# Altium schematic symbol library kmilo17pet-NSC_MiscPower.SchLib: 1552 symbols (part 31 of 43)
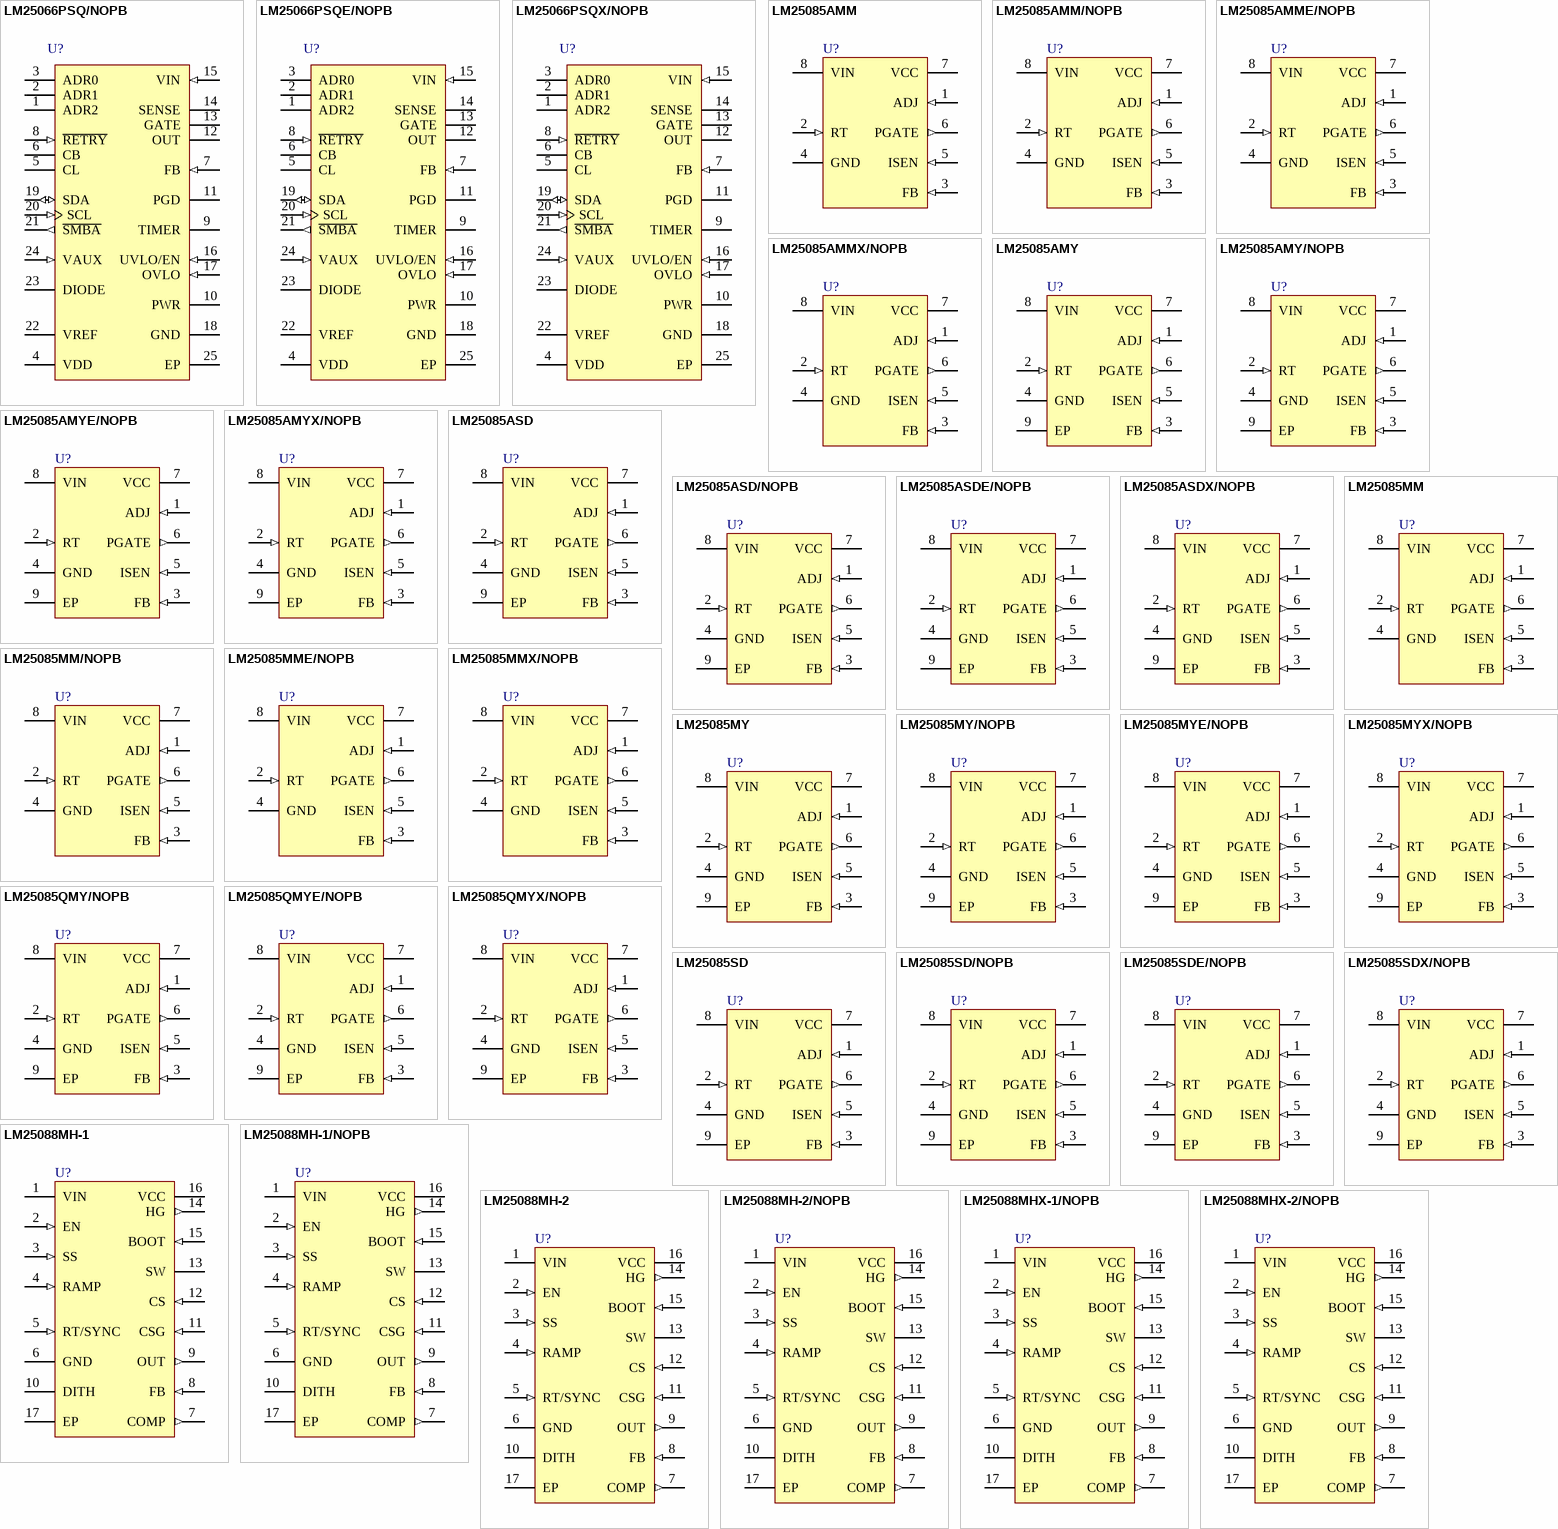
[diagram p87: symbols LM25066PSQ/NOPB to LM25088MHX-2/NOPB]

## LM25085AMY/NOPB
designator U?
42V Constant On-Time PFET Buck Switching Controller with 0.9V Reference, 8-pin eMSOP, Pb-Free; PartNumber: LM25085AMY/NOPB; Manufacturer: National Semiconductor; PackageTopMarking: ZXTT*SVYA; PowerWise: N; CompType: MiscPower; High-Reliability: Y; DatasheetVersion: Mar-2009; PackageVersion: revA, Nov-2003; PackageReference: MUY08A; PackageDescription: Molded Mini-SO, Exposed Pad, .118 x .118 x .034in Body, 8 Lead, .0256in Pitch; RoHS: Y; PinCount: 8; Code_JEDEC: MO-187-AA; ComponentLink1Description: Manufacturer URL; ComponentLink1URL: http://www.national.com/; ComponentLink2Description: LM25085A Datasheet; ComponentLink2URL: http://www.national.com/ds/LM/LM25085A.pdf; ComponentLink3Description: LM25085A Web Page; ComponentLink3URL: http://www.national.com/pf/LM/LM25085A.html; ComponentLink4Description: MUY08A Package Page; ComponentLink4URL: http://www.national.com/packaging/folders/muy08a.html
footprint MUY08A_N (TSOP, 8-Leads, Body 3x3mm, Pitch 0.65mm, Thermal Pad, IPC Medium Density)
footprint MUY08A_L (TSOP, 8-Leads, Body 3x3mm, Pitch 0.65mm, Thermal Pad, IPC High Density)
footprint MUY08A_M (TSOP, 8-Leads, Body 3x3mm, Pitch 0.65mm, Thermal Pad, IPC Low Density)
pins: 1 ADJ (in), 2 RT (in), 3 FB (in), 4 GND (power), 5 ISEN (in), 6 PGATE (out), 7 VCC (power), 8 VIN (power), 9 EP (power)

## LM25085AMYE/NOPB
designator U?
42V Constant On-Time PFET Buck Switching Controller with 0.9V Reference, 8-pin eMSOP, Pb-Free; PartNumber: LM25085AMYE/NOPB; Manufacturer: National Semiconductor; PackageTopMarking: ZXTT*SVYA; PowerWise: N; CompType: MiscPower; High-Reliability: Y; DatasheetVersion: Mar-2009; PackageVersion: revA, Nov-2003; PackageReference: MUY08A; PackageDescription: Molded Mini-SO, Exposed Pad, .118 x .118 x .034in Body, 8 Lead, .0256in Pitch; RoHS: Y; PinCount: 8; Code_JEDEC: MO-187-AA; ComponentLink1Description: Manufacturer URL; ComponentLink1URL: http://www.national.com/; ComponentLink2Description: LM25085A Datasheet; ComponentLink2URL: http://www.national.com/ds/LM/LM25085A.pdf; ComponentLink3Description: LM25085A Web Page; ComponentLink3URL: http://www.national.com/pf/LM/LM25085A.html; ComponentLink4Description: MUY08A Package Page; ComponentLink4URL: http://www.national.com/packaging/folders/muy08a.html
footprint MUY08A_N (TSOP, 8-Leads, Body 3x3mm, Pitch 0.65mm, Thermal Pad, IPC Medium Density)
footprint MUY08A_L (TSOP, 8-Leads, Body 3x3mm, Pitch 0.65mm, Thermal Pad, IPC High Density)
footprint MUY08A_M (TSOP, 8-Leads, Body 3x3mm, Pitch 0.65mm, Thermal Pad, IPC Low Density)
pins: 1 ADJ (in), 2 RT (in), 3 FB (in), 4 GND (power), 5 ISEN (in), 6 PGATE (out), 7 VCC (power), 8 VIN (power), 9 EP (power)

## LM25085AMYX/NOPB
designator U?
42V Constant On-Time PFET Buck Switching Controller with 0.9V Reference, 8-pin eMSOP, Pb-Free; PartNumber: LM25085AMYX/NOPB; Manufacturer: National Semiconductor; PackageTopMarking: ZXTT*SVYA; PowerWise: N; CompType: MiscPower; High-Reliability: Y; DatasheetVersion: Mar-2009; PackageVersion: revA, Nov-2003; PackageReference: MUY08A; PackageDescription: Molded Mini-SO, Exposed Pad, .118 x .118 x .034in Body, 8 Lead, .0256in Pitch; RoHS: Y; PinCount: 8; Code_JEDEC: MO-187-AA; ComponentLink1Description: Manufacturer URL; ComponentLink1URL: http://www.national.com/; ComponentLink2Description: LM25085A Datasheet; ComponentLink2URL: http://www.national.com/ds/LM/LM25085A.pdf; ComponentLink3Description: LM25085A Web Page; ComponentLink3URL: http://www.national.com/pf/LM/LM25085A.html; ComponentLink4Description: MUY08A Package Page; ComponentLink4URL: http://www.national.com/packaging/folders/muy08a.html
footprint MUY08A_N (TSOP, 8-Leads, Body 3x3mm, Pitch 0.65mm, Thermal Pad, IPC Medium Density)
footprint MUY08A_L (TSOP, 8-Leads, Body 3x3mm, Pitch 0.65mm, Thermal Pad, IPC High Density)
footprint MUY08A_M (TSOP, 8-Leads, Body 3x3mm, Pitch 0.65mm, Thermal Pad, IPC Low Density)
pins: 1 ADJ (in), 2 RT (in), 3 FB (in), 4 GND (power), 5 ISEN (in), 6 PGATE (out), 7 VCC (power), 8 VIN (power), 9 EP (power)

## LM25085ASD
designator U?
42V Constant On-Time PFET Buck Switching Controller with 0.9V Reference , 8-pin LLP; PartNumber: LM25085ASD; Manufacturer: National Semiconductor; PackageTopMarking: ZXYTT*L246A; PowerWise: N; CompType: MiscPower; High-Reliability: Y; DatasheetVersion: Mar-2009; PackageVersion: revA, Aug-2003; PackageReference: SDA08A; PackageDescription: LLP, Plastic, Dual, 3 x 3 x 0.8mm Body, 8 Lead, 0.5mm Pitch, No Pullback; RoHS: Y; PinCount: 8; ComponentLink1Description: Manufacturer URL; ComponentLink1URL: http://www.national.com/; ComponentLink2Description: LM25085 Datasheet; ComponentLink2URL: http://www.national.com/ds/LM/LM25085A.pdf; ComponentLink3Description: LM25085 Web Page; ComponentLink3URL: http://www.national.com/pf/LM/LM25085A.html; ComponentLink4Description: SDA08A Package Page; ComponentLink4URL: http://www.national.com/packaging/folders/sda08a.html
footprint SDA08A (SON, 8-Leads, Body 3x3mm, Pitch 0.5mm, NSC Recommended)
pins: 1 ADJ (in), 2 RT (in), 3 FB (in), 4 GND (power), 5 ISEN (in), 6 PGATE (out), 7 VCC (power), 8 VIN (power), 9 EP (power)

## LM25085ASD/NOPB
designator U?
42V Constant On-Time PFET Buck Switching Controller with 0.9V Reference, 8-pin LLP, Pb-Free; PartNumber: LM25085ASD/NOPB; Manufacturer: National Semiconductor; PackageTopMarking: ZXYTT*L246A; PowerWise: N; CompType: MiscPower; High-Reliability: Y; DatasheetVersion: Mar-2009; PackageVersion: revA, Aug-2003; PackageReference: SDA08A; PackageDescription: LLP, Plastic, Dual, 3 x 3 x 0.8mm Body, 8 Lead, 0.5mm Pitch, No Pullback; RoHS: Y; PinCount: 8; ComponentLink1Description: Manufacturer URL; ComponentLink1URL: http://www.national.com/; ComponentLink2Description: LM25085A Datasheet; ComponentLink2URL: http://www.national.com/ds/LM/LM25085A.pdf; ComponentLink3Description: LM25085A Web Page; ComponentLink3URL: http://www.national.com/pf/LM/LM25085A.html; ComponentLink4Description: SDA08A Package Page; ComponentLink4URL: http://www.national.com/packaging/folders/sda08a.html
footprint SDA08A (SON, 8-Leads, Body 3x3mm, Pitch 0.5mm, NSC Recommended)
pins: 1 ADJ (in), 2 RT (in), 3 FB (in), 4 GND (power), 5 ISEN (in), 6 PGATE (out), 7 VCC (power), 8 VIN (power), 9 EP (power)

## LM25085ASDE/NOPB
designator U?
42V Constant On-Time PFET Buck Switching Controller with 0.9V Reference, 8-pin LLP, Pb-Free; PartNumber: LM25085ASDE/NOPB; Manufacturer: National Semiconductor; PackageTopMarking: ZXYTT*L246A; PowerWise: N; CompType: MiscPower; High-Reliability: Y; DatasheetVersion: Mar-2009; PackageVersion: revA, Aug-2003; PackageReference: SDA08A; PackageDescription: LLP, Plastic, Dual, 3 x 3 x 0.8mm Body, 8 Lead, 0.5mm Pitch, No Pullback; RoHS: Y; PinCount: 8; ComponentLink1Description: Manufacturer URL; ComponentLink1URL: http://www.national.com/; ComponentLink2Description: LM25085A Datasheet; ComponentLink2URL: http://www.national.com/ds/LM/LM25085A.pdf; ComponentLink3Description: LM25085A Web Page; ComponentLink3URL: http://www.national.com/pf/LM/LM25085A.html; ComponentLink4Description: SDA08A Package Page; ComponentLink4URL: http://www.national.com/packaging/folders/sda08a.html
footprint SDA08A (SON, 8-Leads, Body 3x3mm, Pitch 0.5mm, NSC Recommended)
pins: 1 ADJ (in), 2 RT (in), 3 FB (in), 4 GND (power), 5 ISEN (in), 6 PGATE (out), 7 VCC (power), 8 VIN (power), 9 EP (power)

## LM25085ASDX/NOPB
designator U?
42V Constant On-Time PFET Buck Switching Controller with 0.9V Reference, 8-pin LLP, Pb-Free; PartNumber: LM25085ASDX/NOPB; Manufacturer: National Semiconductor; PackageTopMarking: ZXYTT*L246A; PowerWise: N; CompType: MiscPower; High-Reliability: Y; DatasheetVersion: Mar-2009; PackageVersion: revA, Aug-2003; PackageReference: SDA08A; PackageDescription: LLP, Plastic, Dual, 3 x 3 x 0.8mm Body, 8 Lead, 0.5mm Pitch, No Pullback; RoHS: Y; PinCount: 8; ComponentLink1Description: Manufacturer URL; ComponentLink1URL: http://www.national.com/; ComponentLink2Description: LM25085A Datasheet; ComponentLink2URL: http://www.national.com/ds/LM/LM25085A.pdf; ComponentLink3Description: LM25085A Web Page; ComponentLink3URL: http://www.national.com/pf/LM/LM25085A.html; ComponentLink4Description: SDA08A Package Page; ComponentLink4URL: http://www.national.com/packaging/folders/sda08a.html
footprint SDA08A (SON, 8-Leads, Body 3x3mm, Pitch 0.5mm, NSC Recommended)
pins: 1 ADJ (in), 2 RT (in), 3 FB (in), 4 GND (power), 5 ISEN (in), 6 PGATE (out), 7 VCC (power), 8 VIN (power), 9 EP (power)

## LM25085MM
designator U?
42V Constant On-Time PFET Buck Switching Controller, PowerWise, 8-pin MSOP; PartNumber: LM25085MM; Manufacturer: National Semiconductor; PackageTopMarking: ZXTT*SVZB; PowerWise: Y; CompType: MiscPower; DatasheetVersion: Dec-2009; PackageVersion: revF, Apr-2008; PackageReference: MUA08A; PackageDescription: MINI SOIC, .118 x .118 x .034in, 8 Lead, .0256in Pitch; RoHS: Y; PinCount: 8; High-Reliability: Y; Code_JEDEC: MO-187-AA; ComponentLink1Description: Manufacturer URL; ComponentLink1URL: http://www.national.com/; ComponentLink2Description: LM25085 Datasheet; ComponentLink2URL: http://www.national.com/ds/LM/LM25085.pdf; ComponentLink3Description: LM25085 Web Page; ComponentLink3URL: http://www.national.com/pf/LM/LM25085.html; ComponentLink4Description: MUA08A Package Page; ComponentLink4URL: http://www.national.com/packaging/folders/mua08a.html
footprint MUA08A_N (TSOP, 8-Leads, Body 3x3mm, Pitch 0.65mm, IPC Medium Density)
footprint MUA08A_L (TSOP, 8-Leads, Body 3x3mm, Pitch 0.65mm, IPC High Density)
footprint MUA08A_M (TSOP, 8-Leads, Body 3x3mm, Pitch 0.65mm, IPC Low Density)
pins: 1 ADJ (in), 2 RT (in), 3 FB (in), 4 GND (power), 5 ISEN (in), 6 PGATE (out), 7 VCC (power), 8 VIN (power)

## LM25085MM/NOPB
designator U?
42V Constant On-Time PFET Buck Switching Controller, 8-pin MSOP, Pb-Free; PartNumber: LM25085MM/NOPB; Manufacturer: National Semiconductor; PackageTopMarking: ZXTT*SVZB; PowerWise: Y; CompType: MiscPower; DatasheetVersion: Dec-2009; PackageVersion: revF, Apr-2008; PackageReference: MUA08A; PackageDescription: MINI SOIC, .118 x .118 x .034in, 8 Lead, .0256in Pitch; RoHS: Y; PinCount: 8; High-Reliability: Y; Code_JEDEC: MO-187-AA; ComponentLink1Description: Manufacturer URL; ComponentLink1URL: http://www.national.com/; ComponentLink2Description: LM25085 Datasheet; ComponentLink2URL: http://www.national.com/ds/LM/LM25085.pdf; ComponentLink3Description: LM25085 Web Page; ComponentLink3URL: http://www.national.com/pf/LM/LM25085.html; ComponentLink4Description: MUA08A Package Page; ComponentLink4URL: http://www.national.com/packaging/folders/mua08a.html
footprint MUA08A_N (TSOP, 8-Leads, Body 3x3mm, Pitch 0.65mm, IPC Medium Density)
footprint MUA08A_L (TSOP, 8-Leads, Body 3x3mm, Pitch 0.65mm, IPC High Density)
footprint MUA08A_M (TSOP, 8-Leads, Body 3x3mm, Pitch 0.65mm, IPC Low Density)
pins: 1 ADJ (in), 2 RT (in), 3 FB (in), 4 GND (power), 5 ISEN (in), 6 PGATE (out), 7 VCC (power), 8 VIN (power)

## LM25085MME/NOPB
designator U?
42V Constant On-Time PFET Buck Switching Controller, 8-pin MSOP, Pb-Free; PartNumber: LM25085MME/NOPB; Manufacturer: National Semiconductor; PackageTopMarking: ZXTT*SVZB; PowerWise: Y; CompType: MiscPower; DatasheetVersion: Dec-2009; PackageVersion: revF, Apr-2008; PackageReference: MUA08A; PackageDescription: MINI SOIC, .118 x .118 x .034in, 8 Lead, .0256in Pitch; RoHS: Y; PinCount: 8; High-Reliability: Y; Code_JEDEC: MO-187-AA; ComponentLink1Description: Manufacturer URL; ComponentLink1URL: http://www.national.com/; ComponentLink2Description: LM25085 Datasheet; ComponentLink2URL: http://www.national.com/ds/LM/LM25085.pdf; ComponentLink3Description: LM25085 Web Page; ComponentLink3URL: http://www.national.com/pf/LM/LM25085.html; ComponentLink4Description: MUA08A Package Page; ComponentLink4URL: http://www.national.com/packaging/folders/mua08a.html
footprint MUA08A_N (TSOP, 8-Leads, Body 3x3mm, Pitch 0.65mm, IPC Medium Density)
footprint MUA08A_L (TSOP, 8-Leads, Body 3x3mm, Pitch 0.65mm, IPC High Density)
footprint MUA08A_M (TSOP, 8-Leads, Body 3x3mm, Pitch 0.65mm, IPC Low Density)
pins: 1 ADJ (in), 2 RT (in), 3 FB (in), 4 GND (power), 5 ISEN (in), 6 PGATE (out), 7 VCC (power), 8 VIN (power)

## LM25085MMX/NOPB
designator U?
42V Constant On-Time PFET Buck Switching Controller, 8-pin MSOP, Pb-Free; PartNumber: LM25085MMX/NOPB; Manufacturer: National Semiconductor; PackageTopMarking: ZXTT*SVZB; PowerWise: Y; CompType: MiscPower; DatasheetVersion: Dec-2009; PackageVersion: revF, Apr-2008; PackageReference: MUA08A; PackageDescription: MINI SOIC, .118 x .118 x .034in, 8 Lead, .0256in Pitch; RoHS: Y; PinCount: 8; High-Reliability: Y; Code_JEDEC: MO-187-AA; ComponentLink1Description: Manufacturer URL; ComponentLink1URL: http://www.national.com/; ComponentLink2Description: LM25085 Datasheet; ComponentLink2URL: http://www.national.com/ds/LM/LM25085.pdf; ComponentLink3Description: LM25085 Web Page; ComponentLink3URL: http://www.national.com/pf/LM/LM25085.html; ComponentLink4Description: MUA08A Package Page; ComponentLink4URL: http://www.national.com/packaging/folders/mua08a.html
footprint MUA08A_N (TSOP, 8-Leads, Body 3x3mm, Pitch 0.65mm, IPC Medium Density)
footprint MUA08A_L (TSOP, 8-Leads, Body 3x3mm, Pitch 0.65mm, IPC High Density)
footprint MUA08A_M (TSOP, 8-Leads, Body 3x3mm, Pitch 0.65mm, IPC Low Density)
pins: 1 ADJ (in), 2 RT (in), 3 FB (in), 4 GND (power), 5 ISEN (in), 6 PGATE (out), 7 VCC (power), 8 VIN (power)

## LM25085MY
designator U?
42V Constant On-Time PFET Buck Switching Controller, PowerWise, 9-pin eMSOP; PartNumber: LM25085MY; Manufacturer: National Semiconductor; PackageTopMarking: ZXTT*SVYB; PowerWise: Y; CompType: MiscPower; DatasheetVersion: Dec-2009; PackageVersion: revA, Nov-2003; PackageReference: MUY08A; PackageDescription: Molded Mini-SO, Exposed Pad, .118 x .118 x .034in Body, 8 Lead, .0256in Pitch; RoHS: Y; PinCount: 8; High-Reliability: Y; Code_JEDEC: MO-187-AA; ComponentLink1Description: Manufacturer URL; ComponentLink1URL: http://www.national.com/; ComponentLink2Description: LM25085 Datasheet; ComponentLink2URL: http://www.national.com/ds/LM/LM25085.pdf; ComponentLink3Description: LM25085 Web Page; ComponentLink3URL: http://www.national.com/pf/LM/LM25085.html; ComponentLink4Description: MUY08A Package Page; ComponentLink4URL: http://www.national.com/packaging/folders/muy08a.html
footprint MUY08A_N (TSOP, 8-Leads, Body 3x3mm, Pitch 0.65mm, Thermal Pad, IPC Medium Density)
footprint MUY08A_L (TSOP, 8-Leads, Body 3x3mm, Pitch 0.65mm, Thermal Pad, IPC High Density)
footprint MUY08A_M (TSOP, 8-Leads, Body 3x3mm, Pitch 0.65mm, Thermal Pad, IPC Low Density)
pins: 1 ADJ (in), 2 RT (in), 3 FB (in), 4 GND (power), 5 ISEN (in), 6 PGATE (out), 7 VCC (power), 8 VIN (power), 9 EP (power)

## LM25085MY/NOPB
designator U?
42V Constant On-Time PFET Buck Switching Controller, 8-pin eMSOP, Pb-Free; PartNumber: LM25085MY/NOPB; Manufacturer: National Semiconductor; PackageTopMarking: ZXTT*SVYB; PowerWise: Y; CompType: MiscPower; DatasheetVersion: Dec-2009; PackageVersion: revA, Nov-2003; PackageReference: MUY08A; PackageDescription: Molded Mini-SO, Exposed Pad, .118 x .118 x .034in Body, 8 Lead, .0256in Pitch; RoHS: Y; PinCount: 8; High-Reliability: Y; Code_JEDEC: MO-187-AA; ComponentLink1Description: Manufacturer URL; ComponentLink1URL: http://www.national.com/; ComponentLink2Description: LM25085 Datasheet; ComponentLink2URL: http://www.national.com/ds/LM/LM25085.pdf; ComponentLink3Description: LM25085 Web Page; ComponentLink3URL: http://www.national.com/pf/LM/LM25085.html; ComponentLink4Description: MUY08A Package Page; ComponentLink4URL: http://www.national.com/packaging/folders/muy08a.html
footprint MUY08A_N (TSOP, 8-Leads, Body 3x3mm, Pitch 0.65mm, Thermal Pad, IPC Medium Density)
footprint MUY08A_L (TSOP, 8-Leads, Body 3x3mm, Pitch 0.65mm, Thermal Pad, IPC High Density)
footprint MUY08A_M (TSOP, 8-Leads, Body 3x3mm, Pitch 0.65mm, Thermal Pad, IPC Low Density)
pins: 1 ADJ (in), 2 RT (in), 3 FB (in), 4 GND (power), 5 ISEN (in), 6 PGATE (out), 7 VCC (power), 8 VIN (power), 9 EP (power)

## LM25085MYE/NOPB
designator U?
42V Constant On-Time PFET Buck Switching Controller, 8-pin eMSOP, Pb-Free; PartNumber: LM25085MYE/NOPB; Manufacturer: National Semiconductor; PackageTopMarking: ZXTT*SVYB; PowerWise: Y; CompType: MiscPower; DatasheetVersion: Dec-2009; PackageVersion: revA, Nov-2003; PackageReference: MUY08A; PackageDescription: Molded Mini-SO, Exposed Pad, .118 x .118 x .034in Body, 8 Lead, .0256in Pitch; RoHS: Y; PinCount: 8; High-Reliability: Y; Code_JEDEC: MO-187-AA; ComponentLink1Description: Manufacturer URL; ComponentLink1URL: http://www.national.com/; ComponentLink2Description: LM25085 Datasheet; ComponentLink2URL: http://www.national.com/ds/LM/LM25085.pdf; ComponentLink3Description: LM25085 Web Page; ComponentLink3URL: http://www.national.com/pf/LM/LM25085.html; ComponentLink4Description: MUY08A Package Page; ComponentLink4URL: http://www.national.com/packaging/folders/muy08a.html
footprint MUY08A_N (TSOP, 8-Leads, Body 3x3mm, Pitch 0.65mm, Thermal Pad, IPC Medium Density)
footprint MUY08A_L (TSOP, 8-Leads, Body 3x3mm, Pitch 0.65mm, Thermal Pad, IPC High Density)
footprint MUY08A_M (TSOP, 8-Leads, Body 3x3mm, Pitch 0.65mm, Thermal Pad, IPC Low Density)
pins: 1 ADJ (in), 2 RT (in), 3 FB (in), 4 GND (power), 5 ISEN (in), 6 PGATE (out), 7 VCC (power), 8 VIN (power), 9 EP (power)

## LM25085MYX/NOPB
designator U?
42V Constant On-Time PFET Buck Switching Controller, 8-pin eMSOP, Pb-Free; PartNumber: LM25085MYX/NOPB; Manufacturer: National Semiconductor; PackageTopMarking: ZXTT*SVYB; PowerWise: Y; CompType: MiscPower; DatasheetVersion: Dec-2009; PackageVersion: revA, Nov-2003; PackageReference: MUY08A; PackageDescription: Molded Mini-SO, Exposed Pad, .118 x .118 x .034in Body, 8 Lead, .0256in Pitch; RoHS: Y; PinCount: 8; High-Reliability: Y; Code_JEDEC: MO-187-AA; ComponentLink1Description: Manufacturer URL; ComponentLink1URL: http://www.national.com/; ComponentLink2Description: LM25085 Datasheet; ComponentLink2URL: http://www.national.com/ds/LM/LM25085.pdf; ComponentLink3Description: LM25085 Web Page; ComponentLink3URL: http://www.national.com/pf/LM/LM25085.html; ComponentLink4Description: MUY08A Package Page; ComponentLink4URL: http://www.national.com/packaging/folders/muy08a.html
footprint MUY08A_N (TSOP, 8-Leads, Body 3x3mm, Pitch 0.65mm, Thermal Pad, IPC Medium Density)
footprint MUY08A_L (TSOP, 8-Leads, Body 3x3mm, Pitch 0.65mm, Thermal Pad, IPC High Density)
footprint MUY08A_M (TSOP, 8-Leads, Body 3x3mm, Pitch 0.65mm, Thermal Pad, IPC Low Density)
pins: 1 ADJ (in), 2 RT (in), 3 FB (in), 4 GND (power), 5 ISEN (in), 6 PGATE (out), 7 VCC (power), 8 VIN (power), 9 EP (power)

## LM25085QMY/NOPB
designator U?
42V Constant On-Time PFET Buck Switching Controller, 8-pin eMSOP, Pb-Free; PartNumber: LM25085QMY/NOPB; Manufacturer: National Semiconductor; PackageTopMarking: ZXTT*SYLB; PowerWise: N; CompType: MiscPower; High-Reliability: Y; DatasheetVersion: Dec-2009; PackageVersion: revA, Nov-2003; PackageReference: MUY08A; PackageDescription: Molded Mini-SO, Exposed Pad, .118 x .118 x .034in Body, 8 Lead, .0256in Pitch; RoHS: Y; PinCount: 8; Code_JEDEC: MO-187-AA; ComponentLink1Description: Manufacturer URL; ComponentLink1URL: http://www.national.com/; ComponentLink2Description: LM25085 Datasheet; ComponentLink2URL: http://www.national.com/ds/LM/LM25085.pdf; ComponentLink3Description: LM25085 Web Page; ComponentLink3URL: http://www.national.com/pf/LM/LM25085.html; ComponentLink4Description: MUY08A Package Page; ComponentLink4URL: http://www.national.com/packaging/folders/muy08a.html
footprint MUY08A_N (TSOP, 8-Leads, Body 3x3mm, Pitch 0.65mm, Thermal Pad, IPC Medium Density)
footprint MUY08A_L (TSOP, 8-Leads, Body 3x3mm, Pitch 0.65mm, Thermal Pad, IPC High Density)
footprint MUY08A_M (TSOP, 8-Leads, Body 3x3mm, Pitch 0.65mm, Thermal Pad, IPC Low Density)
pins: 1 ADJ (in), 2 RT (in), 3 FB (in), 4 GND (power), 5 ISEN (in), 6 PGATE (out), 7 VCC (power), 8 VIN (power), 9 EP (power)

## LM25085QMYE/NOPB
designator U?
42V Constant On-Time PFET Buck Switching Controller, 8-pin eMSOP, Pb-Free; PartNumber: LM25085QMYE/NOPB; Manufacturer: National Semiconductor; PackageTopMarking: ZXTT*SYLB; PowerWise: N; CompType: MiscPower; High-Reliability: Y; DatasheetVersion: Dec-2009; PackageVersion: revA, Nov-2003; PackageReference: MUY08A; PackageDescription: Molded Mini-SO, Exposed Pad, .118 x .118 x .034in Body, 8 Lead, .0256in Pitch; RoHS: Y; PinCount: 8; Code_JEDEC: MO-187-AA; ComponentLink1Description: Manufacturer URL; ComponentLink1URL: http://www.national.com/; ComponentLink2Description: LM25085 Datasheet; ComponentLink2URL: http://www.national.com/ds/LM/LM25085.pdf; ComponentLink3Description: LM25085 Web Page; ComponentLink3URL: http://www.national.com/pf/LM/LM25085.html; ComponentLink4Description: MUY08A Package Page; ComponentLink4URL: http://www.national.com/packaging/folders/muy08a.html
footprint MUY08A_N (TSOP, 8-Leads, Body 3x3mm, Pitch 0.65mm, Thermal Pad, IPC Medium Density)
footprint MUY08A_L (TSOP, 8-Leads, Body 3x3mm, Pitch 0.65mm, Thermal Pad, IPC High Density)
footprint MUY08A_M (TSOP, 8-Leads, Body 3x3mm, Pitch 0.65mm, Thermal Pad, IPC Low Density)
pins: 1 ADJ (in), 2 RT (in), 3 FB (in), 4 GND (power), 5 ISEN (in), 6 PGATE (out), 7 VCC (power), 8 VIN (power), 9 EP (power)

## LM25085QMYX/NOPB
designator U?
42V Constant On-Time PFET Buck Switching Controller, 8-pin eMSOP, Pb-Free; PartNumber: LM25085QMYX/NOPB; Manufacturer: National Semiconductor; PackageTopMarking: ZXTT*SYLB; PowerWise: N; CompType: MiscPower; High-Reliability: Y; DatasheetVersion: Dec-2009; PackageVersion: revA, Nov-2003; PackageReference: MUY08A; PackageDescription: Molded Mini-SO, Exposed Pad, .118 x .118 x .034in Body, 8 Lead, .0256in Pitch; RoHS: Y; PinCount: 8; Code_JEDEC: MO-187-AA; ComponentLink1Description: Manufacturer URL; ComponentLink1URL: http://www.national.com/; ComponentLink2Description: LM25085 Datasheet; ComponentLink2URL: http://www.national.com/ds/LM/LM25085.pdf; ComponentLink3Description: LM25085 Web Page; ComponentLink3URL: http://www.national.com/pf/LM/LM25085.html; ComponentLink4Description: MUY08A Package Page; ComponentLink4URL: http://www.national.com/packaging/folders/muy08a.html
footprint MUY08A_N (TSOP, 8-Leads, Body 3x3mm, Pitch 0.65mm, Thermal Pad, IPC Medium Density)
footprint MUY08A_L (TSOP, 8-Leads, Body 3x3mm, Pitch 0.65mm, Thermal Pad, IPC High Density)
footprint MUY08A_M (TSOP, 8-Leads, Body 3x3mm, Pitch 0.65mm, Thermal Pad, IPC Low Density)
pins: 1 ADJ (in), 2 RT (in), 3 FB (in), 4 GND (power), 5 ISEN (in), 6 PGATE (out), 7 VCC (power), 8 VIN (power), 9 EP (power)

## LM25085SD
designator U?
42V Constant On-Time PFET Buck Switching Controller, PowerWise, 8-pin LLP; PartNumber: LM25085SD; Manufacturer: National Semiconductor; PackageTopMarking: ZXYTT*L246B; PowerWise: Y; CompType: MiscPower; DatasheetVersion: Dec-2009; PackageVersion: revA, Aug-2003; PackageReference: SDA08A; PackageDescription: LLP, Plastic, Dual, 3 x 3 x 0.8mm Body, 8 Lead, 0.5mm Pitch, No Pullback; RoHS: Y; PinCount: 8; High-Reliability: Y; ComponentLink1Description: Manufacturer URL; ComponentLink1URL: http://www.national.com/; ComponentLink2Description: LM25085 Datasheet; ComponentLink2URL: http://www.national.com/ds/LM/LM25085.pdf; ComponentLink3Description: LM25085 Web Page; ComponentLink3URL: http://www.national.com/pf/LM/LM25085.html; ComponentLink4Description: SDA08A Package Page; ComponentLink4URL: http://www.national.com/packaging/folders/sda08a.html
footprint SDA08A (SON, 8-Leads, Body 3x3mm, Pitch 0.5mm, NSC Recommended)
pins: 1 ADJ (in), 2 RT (in), 3 FB (in), 4 GND (power), 5 ISEN (in), 6 PGATE (out), 7 VCC (power), 8 VIN (power), 9 EP (power)

## LM25085SD/NOPB
designator U?
42V Constant On-Time PFET Buck Switching Controller, 8-pin LLP, Pb-Free; PartNumber: LM25085SD/NOPB; Manufacturer: National Semiconductor; PackageTopMarking: ZXYTT*L246B; PowerWise: Y; CompType: MiscPower; DatasheetVersion: Dec-2009; PackageVersion: revA, Aug-2003; PackageReference: SDA08A; PackageDescription: LLP, Plastic, Dual, 3 x 3 x 0.8mm Body, 8 Lead, 0.5mm Pitch, No Pullback; RoHS: Y; PinCount: 8; High-Reliability: Y; ComponentLink1Description: Manufacturer URL; ComponentLink1URL: http://www.national.com/; ComponentLink2Description: LM25085 Datasheet; ComponentLink2URL: http://www.national.com/ds/LM/LM25085.pdf; ComponentLink3Description: LM25085 Web Page; ComponentLink3URL: http://www.national.com/pf/LM/LM25085.html; ComponentLink4Description: SDA08A Package Page; ComponentLink4URL: http://www.national.com/packaging/folders/sda08a.html
footprint SDA08A (SON, 8-Leads, Body 3x3mm, Pitch 0.5mm, NSC Recommended)
pins: 1 ADJ (in), 2 RT (in), 3 FB (in), 4 GND (power), 5 ISEN (in), 6 PGATE (out), 7 VCC (power), 8 VIN (power), 9 EP (power)

## LM25085SDE/NOPB
designator U?
42V Constant On-Time PFET Buck Switching Controller, 8-pin LLP, Pb-Free; PartNumber: LM25085SDE/NOPB; Manufacturer: National Semiconductor; PackageTopMarking: ZXYTT*L246B; PowerWise: Y; CompType: MiscPower; DatasheetVersion: Dec-2009; PackageVersion: revA, Aug-2003; PackageReference: SDA08A; PackageDescription: LLP, Plastic, Dual, 3 x 3 x 0.8mm Body, 8 Lead, 0.5mm Pitch, No Pullback; RoHS: Y; PinCount: 8; High-Reliability: Y; ComponentLink1Description: Manufacturer URL; ComponentLink1URL: http://www.national.com/; ComponentLink2Description: LM25085 Datasheet; ComponentLink2URL: http://www.national.com/ds/LM/LM25085.pdf; ComponentLink3Description: LM25085 Web Page; ComponentLink3URL: http://www.national.com/pf/LM/LM25085.html; ComponentLink4Description: SDA08A Package Page; ComponentLink4URL: http://www.national.com/packaging/folders/sda08a.html
footprint SDA08A (SON, 8-Leads, Body 3x3mm, Pitch 0.5mm, NSC Recommended)
pins: 1 ADJ (in), 2 RT (in), 3 FB (in), 4 GND (power), 5 ISEN (in), 6 PGATE (out), 7 VCC (power), 8 VIN (power), 9 EP (power)

## LM25085SDX/NOPB
designator U?
42V Constant On-Time PFET Buck Switching Controller, 8-pin LLP, Pb-Free; PartNumber: LM25085SDX/NOPB; Manufacturer: National Semiconductor; PackageTopMarking: ZXYTT*L246B; PowerWise: Y; CompType: MiscPower; DatasheetVersion: Dec-2009; PackageVersion: revA, Aug-2003; PackageReference: SDA08A; PackageDescription: LLP, Plastic, Dual, 3 x 3 x 0.8mm Body, 8 Lead, 0.5mm Pitch, No Pullback; RoHS: Y; PinCount: 8; High-Reliability: Y; ComponentLink1Description: Manufacturer URL; ComponentLink1URL: http://www.national.com/; ComponentLink2Description: LM25085 Datasheet; ComponentLink2URL: http://www.national.com/ds/LM/LM25085.pdf; ComponentLink3Description: LM25085 Web Page; ComponentLink3URL: http://www.national.com/pf/LM/LM25085.html; ComponentLink4Description: SDA08A Package Page; ComponentLink4URL: http://www.national.com/packaging/folders/sda08a.html
footprint SDA08A (SON, 8-Leads, Body 3x3mm, Pitch 0.5mm, NSC Recommended)
pins: 1 ADJ (in), 2 RT (in), 3 FB (in), 4 GND (power), 5 ISEN (in), 6 PGATE (out), 7 VCC (power), 8 VIN (power), 9 EP (power)

## LM25088MH-1
designator U?
Wide Input Range Non-Synchronous Buck Controller, PowerWise, 16-pin TSSOP-EP; PartNumber: LM25088MH-1; Manufacturer: National Semiconductor; PackageTopMarking: NSUZXYTT*L25088*MH-1; PowerWise: Y; CompType: MiscPower; DatasheetVersion: Mar-2011; PackageVersion: revA, Apr-2003; PackageReference: MXA16A; PackageDescription: Molded TSSOP, Jedec, Exposed Pad, 5.0 x 4.4 x 0.9mm Body,16 Lead, 0.65mm Pitch; RoHS: Y; PinCount: 16; High-Reliability: Y; Code_JEDEC: MO-153-ABT; ComponentLink1Description: Manufacturer URL; ComponentLink1URL: http://www.national.com/; ComponentLink2Description: LM25088 Datasheet; ComponentLink2URL: http://www.national.com/ds/LM/LM25088.pdf; ComponentLink3Description: LM25088 Web Page; ComponentLink3URL: http://www.national.com/pf/LM/LM25088.html; ComponentLink4Description: MXA16A Package Page; ComponentLink4URL: http://www.national.com/packaging/folders/mxa16a.html
footprint MXA16A_N (TSOP, 16-Leads, Body 5x4.4mm, Pitch 0.65mm, Thermal Pad, IPC Medium Density)
footprint MXA16A_L (TSOP, 16-Leads, Body 5x4.4mm, Pitch 0.65mm, Thermal Pad, IPC High Density)
footprint MXA16A_M (TSOP, 16-Leads, Body 5x4.4mm, Pitch 0.65mm, Thermal Pad, IPC Low Density)
pins: 1 VIN (power), 2 EN (in), 3 SS (in), 4 RAMP (in), 5 RT/SYNC (in), 6 GND (power), 7 COMP (out), 8 FB (in), 9 OUT (out), 10 DITH (power), 11 CSG (in), 12 CS (in), 13 SW, 14 HG (out), 15 BOOT (in), 16 VCC (power), 17 EP (power)

## LM25088MH-1/NOPB
designator U?
Wide Input Range Non-Synchronous Buck Controller, 16-pin TSSOP-EP, Pb-Free; PartNumber: LM25088MH-1/NOPB; Manufacturer: National Semiconductor; PackageTopMarking: NSUZXYTT*L25088*MH-1; PowerWise: Y; CompType: MiscPower; DatasheetVersion: Mar-2011; PackageVersion: revA, Apr-2003; PackageReference: MXA16A; PackageDescription: Molded TSSOP, Jedec, Exposed Pad, 5.0 x 4.4 x 0.9mm Body,16 Lead, 0.65mm Pitch; RoHS: Y; PinCount: 16; High-Reliability: Y; Code_JEDEC: MO-153-ABT; ComponentLink1Description: Manufacturer URL; ComponentLink1URL: http://www.national.com/; ComponentLink2Description: LM25088 Datasheet; ComponentLink2URL: http://www.national.com/ds/LM/LM25088.pdf; ComponentLink3Description: LM25088 Web Page; ComponentLink3URL: http://www.national.com/pf/LM/LM25088.html; ComponentLink4Description: MXA16A Package Page; ComponentLink4URL: http://www.national.com/packaging/folders/mxa16a.html
footprint MXA16A_N (TSOP, 16-Leads, Body 5x4.4mm, Pitch 0.65mm, Thermal Pad, IPC Medium Density)
footprint MXA16A_L (TSOP, 16-Leads, Body 5x4.4mm, Pitch 0.65mm, Thermal Pad, IPC High Density)
footprint MXA16A_M (TSOP, 16-Leads, Body 5x4.4mm, Pitch 0.65mm, Thermal Pad, IPC Low Density)
pins: 1 VIN (power), 2 EN (in), 3 SS (in), 4 RAMP (in), 5 RT/SYNC (in), 6 GND (power), 7 COMP (out), 8 FB (in), 9 OUT (out), 10 DITH (power), 11 CSG (in), 12 CS (in), 13 SW, 14 HG (out), 15 BOOT (in), 16 VCC (power), 17 EP (power)

## LM25088MH-2
designator U?
Wide Input Range Non-Synchronous Buck Controller, PowerWise, 16-pin TSSOP-EP; PartNumber: LM25088MH-2; Manufacturer: National Semiconductor; PackageTopMarking: NSUZXYTT*L25088*MH-2; PowerWise: Y; CompType: MiscPower; DatasheetVersion: Mar-2011; PackageVersion: revA, Apr-2003; PackageReference: MXA16A; PackageDescription: Molded TSSOP, Jedec, Exposed Pad, 5.0 x 4.4 x 0.9mm Body,16 Lead, 0.65mm Pitch; RoHS: Y; PinCount: 16; High-Reliability: Y; Code_JEDEC: MO-153-ABT; ComponentLink1Description: Manufacturer URL; ComponentLink1URL: http://www.national.com/; ComponentLink2Description: LM25088 Datasheet; ComponentLink2URL: http://www.national.com/ds/LM/LM25088.pdf; ComponentLink3Description: LM25088 Web Page; ComponentLink3URL: http://www.national.com/pf/LM/LM25088.html; ComponentLink4Description: MXA16A Package Page; ComponentLink4URL: http://www.national.com/packaging/folders/mxa16a.html
footprint MXA16A_N (TSOP, 16-Leads, Body 5x4.4mm, Pitch 0.65mm, Thermal Pad, IPC Medium Density)
footprint MXA16A_L (TSOP, 16-Leads, Body 5x4.4mm, Pitch 0.65mm, Thermal Pad, IPC High Density)
footprint MXA16A_M (TSOP, 16-Leads, Body 5x4.4mm, Pitch 0.65mm, Thermal Pad, IPC Low Density)
pins: 1 VIN (power), 2 EN (in), 3 SS (in), 4 RAMP (in), 5 RT/SYNC (in), 6 GND (power), 7 COMP (out), 8 FB (in), 9 OUT (out), 10 DITH (power), 11 CSG (in), 12 CS (in), 13 SW, 14 HG (out), 15 BOOT (in), 16 VCC (power), 17 EP (power)

## LM25088MH-2/NOPB
designator U?
Wide Input Range Non-Synchronous Buck Controller, 16-pin TSSOP-EP, Pb-Free; PartNumber: LM25088MH-2/NOPB; Manufacturer: National Semiconductor; PackageTopMarking: NSUZXYTT*L25088*MH-2; PowerWise: Y; CompType: MiscPower; DatasheetVersion: Mar-2011; PackageVersion: revA, Apr-2003; PackageReference: MXA16A; PackageDescription: Molded TSSOP, Jedec, Exposed Pad, 5.0 x 4.4 x 0.9mm Body,16 Lead, 0.65mm Pitch; RoHS: Y; PinCount: 16; High-Reliability: Y; Code_JEDEC: MO-153-ABT; ComponentLink1Description: Manufacturer URL; ComponentLink1URL: http://www.national.com/; ComponentLink2Description: LM25088 Datasheet; ComponentLink2URL: http://www.national.com/ds/LM/LM25088.pdf; ComponentLink3Description: LM25088 Web Page; ComponentLink3URL: http://www.national.com/pf/LM/LM25088.html; ComponentLink4Description: MXA16A Package Page; ComponentLink4URL: http://www.national.com/packaging/folders/mxa16a.html
footprint MXA16A_N (TSOP, 16-Leads, Body 5x4.4mm, Pitch 0.65mm, Thermal Pad, IPC Medium Density)
footprint MXA16A_L (TSOP, 16-Leads, Body 5x4.4mm, Pitch 0.65mm, Thermal Pad, IPC High Density)
footprint MXA16A_M (TSOP, 16-Leads, Body 5x4.4mm, Pitch 0.65mm, Thermal Pad, IPC Low Density)
pins: 1 VIN (power), 2 EN (in), 3 SS (in), 4 RAMP (in), 5 RT/SYNC (in), 6 GND (power), 7 COMP (out), 8 FB (in), 9 OUT (out), 10 DITH (power), 11 CSG (in), 12 CS (in), 13 SW, 14 HG (out), 15 BOOT (in), 16 VCC (power), 17 EP (power)

## LM25088MHX-1/NOPB
designator U?
Wide Input Range Non-Synchronous Buck Controller, 16-pin TSSOP-EP, Pb-Free; PartNumber: LM25088MHX-1/NOPB; Manufacturer: National Semiconductor; PackageTopMarking: NSUZXYTT*L25088*MH-1; PowerWise: Y; CompType: MiscPower; DatasheetVersion: Mar-2011; PackageVersion: revA, Apr-2003; PackageReference: MXA16A; PackageDescription: Molded TSSOP, Jedec, Exposed Pad, 5.0 x 4.4 x 0.9mm Body,16 Lead, 0.65mm Pitch; RoHS: Y; PinCount: 16; High-Reliability: Y; Code_JEDEC: MO-153-ABT; ComponentLink1Description: Manufacturer URL; ComponentLink1URL: http://www.national.com/; ComponentLink2Description: LM25088 Datasheet; ComponentLink2URL: http://www.national.com/ds/LM/LM25088.pdf; ComponentLink3Description: LM25088 Web Page; ComponentLink3URL: http://www.national.com/pf/LM/LM25088.html; ComponentLink4Description: MXA16A Package Page; ComponentLink4URL: http://www.national.com/packaging/folders/mxa16a.html
footprint MXA16A_N (TSOP, 16-Leads, Body 5x4.4mm, Pitch 0.65mm, Thermal Pad, IPC Medium Density)
footprint MXA16A_L (TSOP, 16-Leads, Body 5x4.4mm, Pitch 0.65mm, Thermal Pad, IPC High Density)
footprint MXA16A_M (TSOP, 16-Leads, Body 5x4.4mm, Pitch 0.65mm, Thermal Pad, IPC Low Density)
pins: 1 VIN (power), 2 EN (in), 3 SS (in), 4 RAMP (in), 5 RT/SYNC (in), 6 GND (power), 7 COMP (out), 8 FB (in), 9 OUT (out), 10 DITH (power), 11 CSG (in), 12 CS (in), 13 SW, 14 HG (out), 15 BOOT (in), 16 VCC (power), 17 EP (power)

## LM25088MHX-2/NOPB
designator U?
Wide Input Range Non-Synchronous Buck Controller, 16-pin TSSOP-EP, Pb-Free; PartNumber: LM25088MHX-2/NOPB; Manufacturer: National Semiconductor; PackageTopMarking: NSUZXYTT*L25088*MH-2; PowerWise: Y; CompType: MiscPower; DatasheetVersion: Mar-2011; PackageVersion: revA, Apr-2003; PackageReference: MXA16A; PackageDescription: Molded TSSOP, Jedec, Exposed Pad, 5.0 x 4.4 x 0.9mm Body,16 Lead, 0.65mm Pitch; RoHS: Y; PinCount: 16; High-Reliability: Y; Code_JEDEC: MO-153-ABT; ComponentLink1Description: Manufacturer URL; ComponentLink1URL: http://www.national.com/; ComponentLink2Description: LM25088 Datasheet; ComponentLink2URL: http://www.national.com/ds/LM/LM25088.pdf; ComponentLink3Description: LM25088 Web Page; ComponentLink3URL: http://www.national.com/pf/LM/LM25088.html; ComponentLink4Description: MXA16A Package Page; ComponentLink4URL: http://www.national.com/packaging/folders/mxa16a.html
footprint MXA16A_N (TSOP, 16-Leads, Body 5x4.4mm, Pitch 0.65mm, Thermal Pad, IPC Medium Density)
footprint MXA16A_L (TSOP, 16-Leads, Body 5x4.4mm, Pitch 0.65mm, Thermal Pad, IPC High Density)
footprint MXA16A_M (TSOP, 16-Leads, Body 5x4.4mm, Pitch 0.65mm, Thermal Pad, IPC Low Density)
pins: 1 VIN (power), 2 EN (in), 3 SS (in), 4 RAMP (in), 5 RT/SYNC (in), 6 GND (power), 7 COMP (out), 8 FB (in), 9 OUT (out), 10 DITH (power), 11 CSG (in), 12 CS (in), 13 SW, 14 HG (out), 15 BOOT (in), 16 VCC (power), 17 EP (power)

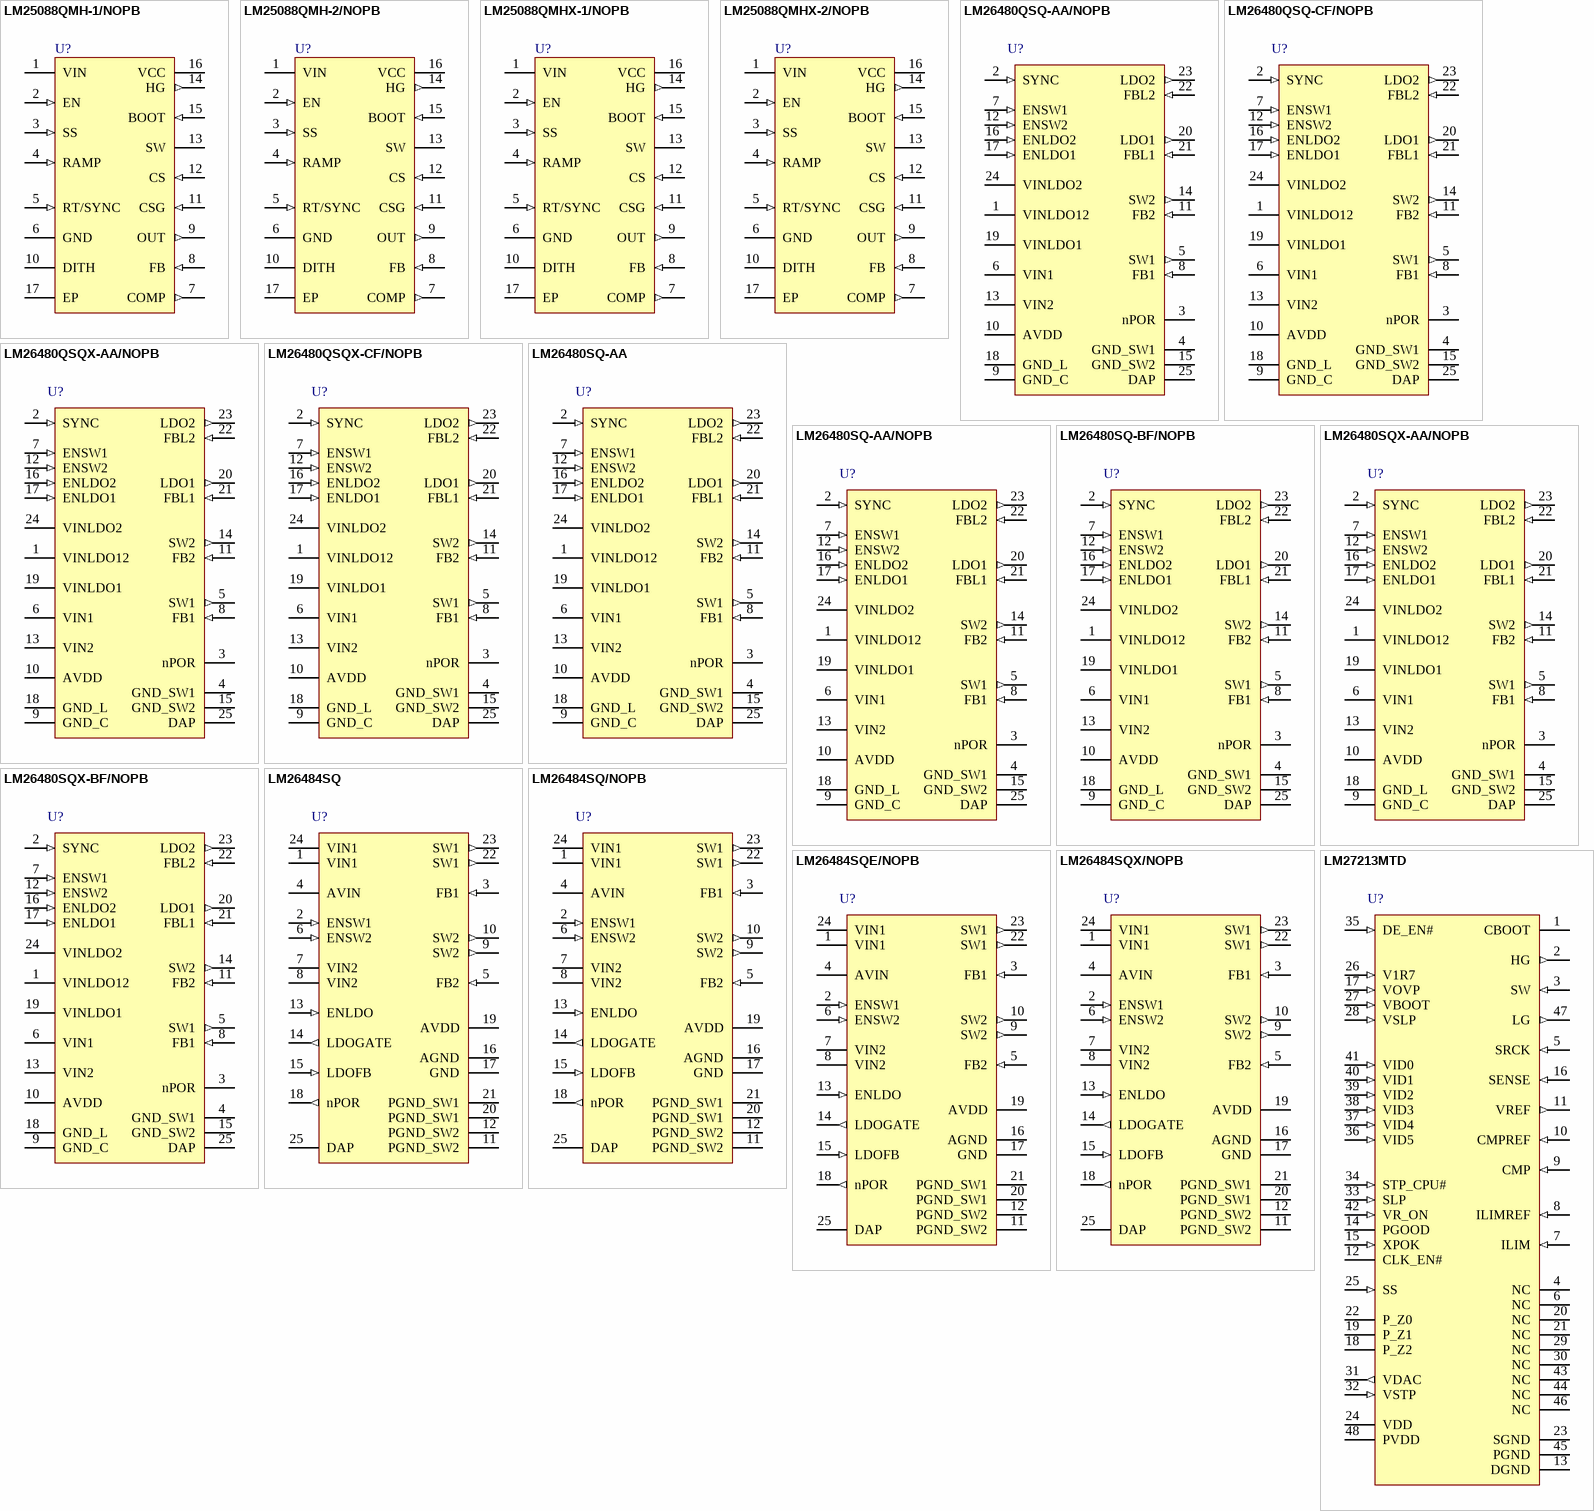
[diagram p35: symbols LM25088QMH-1/NOPB to LM27213MTD]

## LM25088QMH-1/NOPB
designator U?
Wide Input Range Non-Synchronous Buck Controller, 16-pin TSSOP-EP, Dithering, 73 Rail; PartNumber: LM25088QMH-1/NOPB; Manufacturer: National Semiconductor; PackageTopMarking: NSUZXYTT*L25088*QMH-1; PowerWise: Y; CompType: MiscPower; DatasheetVersion: Mar-2011; PackageVersion: revA, Apr-2003; PackageReference: MXA16A; PackageDescription: Molded TSSOP, Jedec, Exposed Pad, 5.0 x 4.4 x 0.9mm Body,16 Lead, 0.65mm Pitch; RoHS: Y; PinCount: 16; High-Reliability: Y; Code_JEDEC: MO-153-ABT; ComponentLink1Description: Manufacturer URL; ComponentLink1URL: http://www.national.com/; ComponentLink2Description: LM25088 Datasheet; ComponentLink2URL: http://www.national.com/ds/LM/LM25088.pdf; ComponentLink3Description: LM25088 Web Page; ComponentLink3URL: http://www.national.com/pf/LM/LM25088.html; ComponentLink4Description: MXA16A Package Page; ComponentLink4URL: http://www.national.com/packaging/folders/mxa16a.html
footprint MXA16A_N (TSOP, 16-Leads, Body 5x4.4mm, Pitch 0.65mm, Thermal Pad, IPC Medium Density)
footprint MXA16A_L (TSOP, 16-Leads, Body 5x4.4mm, Pitch 0.65mm, Thermal Pad, IPC High Density)
footprint MXA16A_M (TSOP, 16-Leads, Body 5x4.4mm, Pitch 0.65mm, Thermal Pad, IPC Low Density)
pins: 1 VIN (power), 2 EN (in), 3 SS (in), 4 RAMP (in), 5 RT/SYNC (in), 6 GND (power), 7 COMP (out), 8 FB (in), 9 OUT (out), 10 DITH (power), 11 CSG (in), 12 CS (in), 13 SW, 14 HG (out), 15 BOOT (in), 16 VCC (power), 17 EP (power)

## LM25088QMH-2/NOPB
designator U?
Wide Input Range Non-Synchronous Buck Controller, 16-pin TSSOP-EP, Restart, 73 Rail; PartNumber: LM25088QMH-2/NOPB; Manufacturer: National Semiconductor; PackageTopMarking: NSUZXYTT*L25088*QMH-2; PowerWise: N; CompType: MiscPower; High-Reliability: Y; DatasheetVersion: Mar-2011; PackageVersion: revA, Apr-2003; PackageReference: MXA16A; PackageDescription: Molded TSSOP, Jedec, Exposed Pad, 5.0 x 4.4 x 0.9mm Body,16 Lead, 0.65mm Pitch; RoHS: Y; PinCount: 16; Code_JEDEC: MO-153-ABT; ComponentLink1Description: Manufacturer URL; ComponentLink1URL: http://www.national.com/; ComponentLink2Description: LM25088 Datasheet; ComponentLink2URL: http://www.national.com/ds/LM/LM25088.pdf; ComponentLink3Description: LM25088 Web Page; ComponentLink3URL: http://www.national.com/pf/LM/LM25088.html; ComponentLink4Description: MXA16A Package Page; ComponentLink4URL: http://www.national.com/packaging/folders/mxa16a.html
footprint MXA16A_N (TSOP, 16-Leads, Body 5x4.4mm, Pitch 0.65mm, Thermal Pad, IPC Medium Density)
footprint MXA16A_L (TSOP, 16-Leads, Body 5x4.4mm, Pitch 0.65mm, Thermal Pad, IPC High Density)
footprint MXA16A_M (TSOP, 16-Leads, Body 5x4.4mm, Pitch 0.65mm, Thermal Pad, IPC Low Density)
pins: 1 VIN (power), 2 EN (in), 3 SS (in), 4 RAMP (in), 5 RT/SYNC (in), 6 GND (power), 7 COMP (out), 8 FB (in), 9 OUT (out), 10 DITH (power), 11 CSG (in), 12 CS (in), 13 SW, 14 HG (out), 15 BOOT (in), 16 VCC (power), 17 EP (power)

## LM25088QMHX-1/NOPB
designator U?
Wide Input Range Non-Synchronous Buck Controller, 16-pin TSSOP-EP, Dithering, 2500 Reel; PartNumber: LM25088QMHX-1/NOPB; Manufacturer: National Semiconductor; PackageTopMarking: NSUZXYTT*L25088*QMH-1; PowerWise: Y; CompType: MiscPower; DatasheetVersion: Mar-2011; PackageVersion: revA, Apr-2003; PackageReference: MXA16A; PackageDescription: Molded TSSOP, Jedec, Exposed Pad, 5.0 x 4.4 x 0.9mm Body,16 Lead, 0.65mm Pitch; RoHS: Y; PinCount: 16; High-Reliability: Y; Code_JEDEC: MO-153-ABT; ComponentLink1Description: Manufacturer URL; ComponentLink1URL: http://www.national.com/; ComponentLink2Description: LM25088 Datasheet; ComponentLink2URL: http://www.national.com/ds/LM/LM25088.pdf; ComponentLink3Description: LM25088 Web Page; ComponentLink3URL: http://www.national.com/pf/LM/LM25088.html; ComponentLink4Description: MXA16A Package Page; ComponentLink4URL: http://www.national.com/packaging/folders/mxa16a.html
footprint MXA16A_N (TSOP, 16-Leads, Body 5x4.4mm, Pitch 0.65mm, Thermal Pad, IPC Medium Density)
footprint MXA16A_L (TSOP, 16-Leads, Body 5x4.4mm, Pitch 0.65mm, Thermal Pad, IPC High Density)
footprint MXA16A_M (TSOP, 16-Leads, Body 5x4.4mm, Pitch 0.65mm, Thermal Pad, IPC Low Density)
pins: 1 VIN (power), 2 EN (in), 3 SS (in), 4 RAMP (in), 5 RT/SYNC (in), 6 GND (power), 7 COMP (out), 8 FB (in), 9 OUT (out), 10 DITH (power), 11 CSG (in), 12 CS (in), 13 SW, 14 HG (out), 15 BOOT (in), 16 VCC (power), 17 EP (power)

## LM25088QMHX-2/NOPB
designator U?
Wide Input Range Non-Synchronous Buck Controller, 16-pin TSSOP-EP, Restart, 2500 Reel; PartNumber: LM25088QMHX-2/NOPB; Manufacturer: National Semiconductor; PackageTopMarking: NSUZXYTT*L25088*QMH-2; PowerWise: N; CompType: MiscPower; High-Reliability: Y; DatasheetVersion: Mar-2011; PackageVersion: revA, Apr-2003; PackageReference: MXA16A; PackageDescription: Molded TSSOP, Jedec, Exposed Pad, 5.0 x 4.4 x 0.9mm Body,16 Lead, 0.65mm Pitch; RoHS: Y; PinCount: 16; Code_JEDEC: MO-153-ABT; ComponentLink1Description: Manufacturer URL; ComponentLink1URL: http://www.national.com/; ComponentLink2Description: LM25088 Datasheet; ComponentLink2URL: http://www.national.com/ds/LM/LM25088.pdf; ComponentLink3Description: LM25088 Web Page; ComponentLink3URL: http://www.national.com/pf/LM/LM25088.html; ComponentLink4Description: MXA16A Package Page; ComponentLink4URL: http://www.national.com/packaging/folders/mxa16a.html
footprint MXA16A_N (TSOP, 16-Leads, Body 5x4.4mm, Pitch 0.65mm, Thermal Pad, IPC Medium Density)
footprint MXA16A_L (TSOP, 16-Leads, Body 5x4.4mm, Pitch 0.65mm, Thermal Pad, IPC High Density)
footprint MXA16A_M (TSOP, 16-Leads, Body 5x4.4mm, Pitch 0.65mm, Thermal Pad, IPC Low Density)
pins: 1 VIN (power), 2 EN (in), 3 SS (in), 4 RAMP (in), 5 RT/SYNC (in), 6 GND (power), 7 COMP (out), 8 FB (in), 9 OUT (out), 10 DITH (power), 11 CSG (in), 12 CS (in), 13 SW, 14 HG (out), 15 BOOT (in), 16 VCC (power), 17 EP (power)

## LM26480QSQ-AA/NOPB
designator U?
Externally Programmable Dual High-Current Step-Down DC/DC and Dual Linear Regulators, 24-pin LLP, 1000 Reel; PartNumber: LM26480QSQ-AA/NOPB; Manufacturer: National Semiconductor; PackageTopMarking: NS*UZXYTT*26480QA; PowerWise: N; CompType: MiscPower; High-Reliability: Y; DatasheetVersion: Aug-2011; PackageVersion: revB, Aug-2003; PackageReference: SQA24A; PackageDescription: LLP, Plastic, Quad, 4 x 4 x 0.8mm Body, 24 Lead, 0.5mm Pitch, No Pullback; RoHS: Y; PinCount: 24; Code_JEDEC: MO-220-WGGD-6; ComponentLink1Description: Manufacturer URL; ComponentLink1URL: http://www.national.com/; ComponentLink2Description: LM26480 Datasheet; ComponentLink2URL: http://www.national.com/ds/LM/LM26480.pdf; ComponentLink3Description: LM26480 Web Page; ComponentLink3URL: http://www.national.com/pf/LM/LM26480.html; ComponentLink4Description: SQA24A Package Page; ComponentLink4URL: http://www.national.com/packaging/folders/sqa24a.html
footprint SQA24A (QFN, 24-Leads, Body 4x4mm, Pitch 0.5mm, Thermal Pad 2.7x2.7mm, NSC Recommended)
pins: 1 VINLDO12 (power) "Analog Power for Internal Functions (VREF, BIAS, I2C, Logic)", 2 SYNC (in) "Frequency Synchronization pin.", 3 nPOR (oc) "nPOR Power on reset pin for both Buck1 and Buck 2.", 4 GND_SW1 (power) "Buck1 NMOS Power Ground", 5 SW1 (out) "Buck1 switcher output pin", 6 VIN1 (power) "Power in from either DC source or Battery to Buck1", 7 ENSW1 (in) "Enable Pin for Buck1 switcher, a logic HIGH enables Buck1. Pin cannot be left floating.", 8 FB1 (in) "Buck1 input feedback terminal", 9 GND_C (power) "Non-switching core ground pin", 10 AVDD (power) "Analog Power for Buck converters", 11 FB2 (in) "Buck2 input feedback terminal", 12 ENSW2 (in) "Enable Pin for Buck2 switcher, a logic HIGH enables Buck2. Pin cannot be left floating.", 13 VIN2 (power) "Power in from either DC source or Battery to Buck2", 14 SW2 (out) "Buck2 switcher output pin", 15 GND_SW2 (power) "Buck2 NMOS", 16 ENLDO2 (in) "LDO2 enable pin, a logic HIGH enables LDO2. Pin cannot be left floating.", 17 ENLDO1 (in) "LDO1 enable pin, a logic HIGH enables LDO1. Pin cannot be left floating.", 18 GND_L (power) "LDO ground", 19 VINLDO1 (power) "Power in from either DC source or battery to LDO1", 20 LDO1 (out) "LDO1 Output", 21 FBL1 (in) "LDO1 Feedback Terminal", 22 FBL2 (in) "LDO2 Feedback Terminal", 23 LDO2 (out) "LDO Output", 24 VINLDO2 (power) "Power in from either DC source or battery to LDO2.", 25 DAP (power)

## LM26480QSQ-CF/NOPB
designator U?
Externally Programmable Dual High-Current Step-Down DC/DC and Dual Linear Regulators, 24-pin LLP, 1000 Reel, Pb-Free; PartNumber: LM26480QSQ-CF/NOPB; Manufacturer: National Semiconductor; PackageTopMarking: NS*UZXYTT*26480CF; PowerWise: N; CompType: MiscPower; High-Reliability: Y; DatasheetVersion: Aug-2011; PackageVersion: revB, Aug-2003; PackageReference: SQA24A; PackageDescription: LLP, Plastic, Quad, 4 x 4 x 0.8mm Body, 24 Lead, 0.5mm Pitch, No Pullback; RoHS: Y; PinCount: 24; Code_JEDEC: MO-220-WGGD-6; ComponentLink1Description: Manufacturer URL; ComponentLink1URL: http://www.national.com/; ComponentLink2Description: LM26480 Datasheet; ComponentLink2URL: http://www.national.com/ds/LM/LM26480.pdf; ComponentLink3Description: LM26480 Web Page; ComponentLink3URL: http://www.national.com/pf/LM/LM26480.html; ComponentLink4Description: SQA24A Package Page; ComponentLink4URL: http://www.national.com/packaging/folders/sqa24a.html
footprint SQA24A (QFN, 24-Leads, Body 4x4mm, Pitch 0.5mm, Thermal Pad 2.7x2.7mm, NSC Recommended)
pins: 1 VINLDO12 (power) "Analog Power for Internal Functions (VREF, BIAS, I2C, Logic)", 2 SYNC (in) "Frequency Synchronization pin.", 3 nPOR (oc) "nPOR Power on reset pin for both Buck1 and Buck 2.", 4 GND_SW1 (power) "Buck1 NMOS Power Ground", 5 SW1 (out) "Buck1 switcher output pin", 6 VIN1 (power) "Power in from either DC source or Battery to Buck1", 7 ENSW1 (in) "Enable Pin for Buck1 switcher, a logic HIGH enables Buck1. Pin cannot be left floating.", 8 FB1 (in) "Buck1 input feedback terminal", 9 GND_C (power) "Non-switching core ground pin", 10 AVDD (power) "Analog Power for Buck converters", 11 FB2 (in) "Buck2 input feedback terminal", 12 ENSW2 (in) "Enable Pin for Buck2 switcher, a logic HIGH enables Buck2. Pin cannot be left floating.", 13 VIN2 (power) "Power in from either DC source or Battery to Buck2", 14 SW2 (out) "Buck2 switcher output pin", 15 GND_SW2 (power) "Buck2 NMOS", 16 ENLDO2 (in) "LDO2 enable pin, a logic HIGH enables LDO2. Pin cannot be left floating.", 17 ENLDO1 (in) "LDO1 enable pin, a logic HIGH enables LDO1. Pin cannot be left floating.", 18 GND_L (power) "LDO ground", 19 VINLDO1 (power) "Power in from either DC source or battery to LDO1", 20 LDO1 (out) "LDO1 Output", 21 FBL1 (in) "LDO1 Feedback Terminal", 22 FBL2 (in) "LDO2 Feedback Terminal", 23 LDO2 (out) "LDO Output", 24 VINLDO2 (power) "Power in from either DC source or battery to LDO2.", 25 DAP (power)

## LM26480QSQX-AA/NOPB
designator U?
Externally Programmable Dual High-Current Step-Down DC/DC and Dual Linear Regulators, 24-pin LLP, 4500; PartNumber: LM26480QSQX-AA/NOPB; Manufacturer: National Semiconductor; PackageTopMarking: NS*UZXYTT*26480QA; PowerWise: N; CompType: MiscPower; High-Reliability: Y; DatasheetVersion: Aug-2011; PackageVersion: revB, Aug-2003; PackageReference: SQA24A; PackageDescription: LLP, Plastic, Quad, 4 x 4 x 0.8mm Body, 24 Lead, 0.5mm Pitch, No Pullback; RoHS: Y; PinCount: 24; Code_JEDEC: MO-220-WGGD-6; ComponentLink1Description: Manufacturer URL; ComponentLink1URL: http://www.national.com/; ComponentLink2Description: LM26480 Datasheet; ComponentLink2URL: http://www.national.com/ds/LM/LM26480.pdf; ComponentLink3Description: LM26480 Web Page; ComponentLink3URL: http://www.national.com/pf/LM/LM26480.html; ComponentLink4Description: SQA24A Package Page; ComponentLink4URL: http://www.national.com/packaging/folders/sqa24a.html
footprint SQA24A (QFN, 24-Leads, Body 4x4mm, Pitch 0.5mm, Thermal Pad 2.7x2.7mm, NSC Recommended)
pins: 1 VINLDO12 (power) "Analog Power for Internal Functions (VREF, BIAS, I2C, Logic)", 2 SYNC (in) "Frequency Synchronization pin.", 3 nPOR (oc) "nPOR Power on reset pin for both Buck1 and Buck 2.", 4 GND_SW1 (power) "Buck1 NMOS Power Ground", 5 SW1 (out) "Buck1 switcher output pin", 6 VIN1 (power) "Power in from either DC source or Battery to Buck1", 7 ENSW1 (in) "Enable Pin for Buck1 switcher, a logic HIGH enables Buck1. Pin cannot be left floating.", 8 FB1 (in) "Buck1 input feedback terminal", 9 GND_C (power) "Non-switching core ground pin", 10 AVDD (power) "Analog Power for Buck converters", 11 FB2 (in) "Buck2 input feedback terminal", 12 ENSW2 (in) "Enable Pin for Buck2 switcher, a logic HIGH enables Buck2. Pin cannot be left floating.", 13 VIN2 (power) "Power in from either DC source or Battery to Buck2", 14 SW2 (out) "Buck2 switcher output pin", 15 GND_SW2 (power) "Buck2 NMOS", 16 ENLDO2 (in) "LDO2 enable pin, a logic HIGH enables LDO2. Pin cannot be left floating.", 17 ENLDO1 (in) "LDO1 enable pin, a logic HIGH enables LDO1. Pin cannot be left floating.", 18 GND_L (power) "LDO ground", 19 VINLDO1 (power) "Power in from either DC source or battery to LDO1", 20 LDO1 (out) "LDO1 Output", 21 FBL1 (in) "LDO1 Feedback Terminal", 22 FBL2 (in) "LDO2 Feedback Terminal", 23 LDO2 (out) "LDO Output", 24 VINLDO2 (power) "Power in from either DC source or battery to LDO2.", 25 DAP (power)